# Altium footprint library Diode_Nexperia_BAT54C,215_eec_IPC_B.PcbLib: 1 footprints
Each footprint in its own frame and in the unit in brackets; x right, y up, seen from the top. Pads: shape width x height; smd on the part's side, far side on the other; paste and mask are expansions set on the pad; w line width, h text height; cw(c..) or ccw(c..) is an arc to the next point about the centre after c.
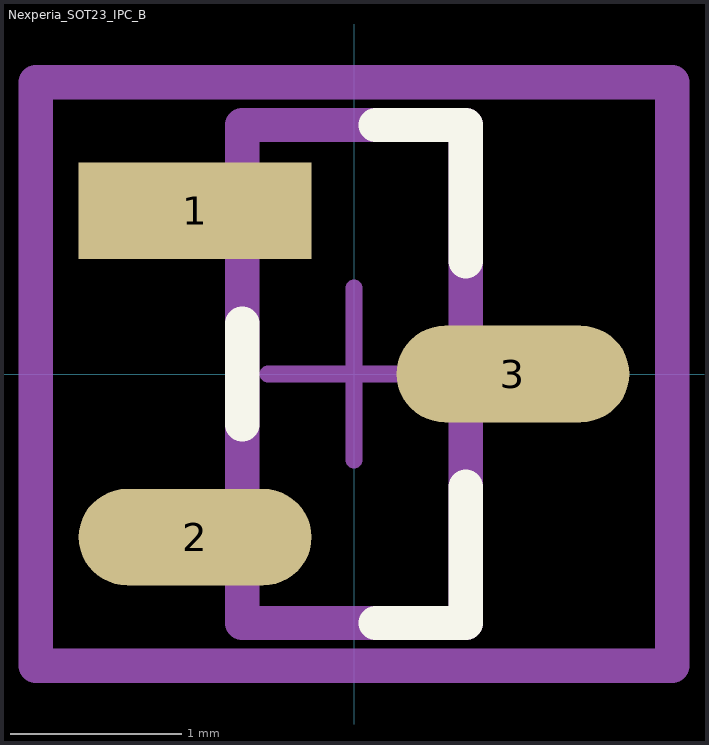
[diagram p0: the footprint, top view; thin cyan lines are the x and y axes]

## Nexperia_SOT23_IPC_B [mm]
pads (3):
  rect 1.355x0.562 smd paste+0 mask+0: 1(-0.925,0.95)
  rrect100% 1.355x0.562 smd paste+0 mask+0: 2(-0.925,-0.95) 3(0.925,0)
Top Overlay:
  lines w0.2: -0.65,-0.294 -0.65,0.294 ; 0.127,-1.45 0.65,-1.45 0.65,-0.656 ; 0.127,1.45 0.65,1.45 0.65,0.656
Mechanical 10:
  lines w0.2: -1.853,-1.7 1.853,-1.7 1.853,1.7 -1.853,1.7 -1.853,-1.7
  text ".Designator" at 0,0 h1
Mechanical 12:
  lines w0.2: -0.65,-1.45 0.65,-1.45 0.65,1.45 -0.65,1.45 -0.65,-1.45
Mechanical 15:
  lines w0.1: -0.5,0 0.5,0 ; 0,-0.5 0,0.5
  lines w0.2: -1.853,-1.7 1.853,-1.7 1.853,1.7 -1.853,1.7 -1.853,-1.7
3D body "Diode_Nexperia_BAT54C,215_eec.STEP": height 0.25, standoff 0, extent -1.853,-1.7 1.853,1.7